# Altium schematic symbol library Header.SchLib: 19 symbols
Pins are listed as number, name and electrical type; pins without a type are passive.

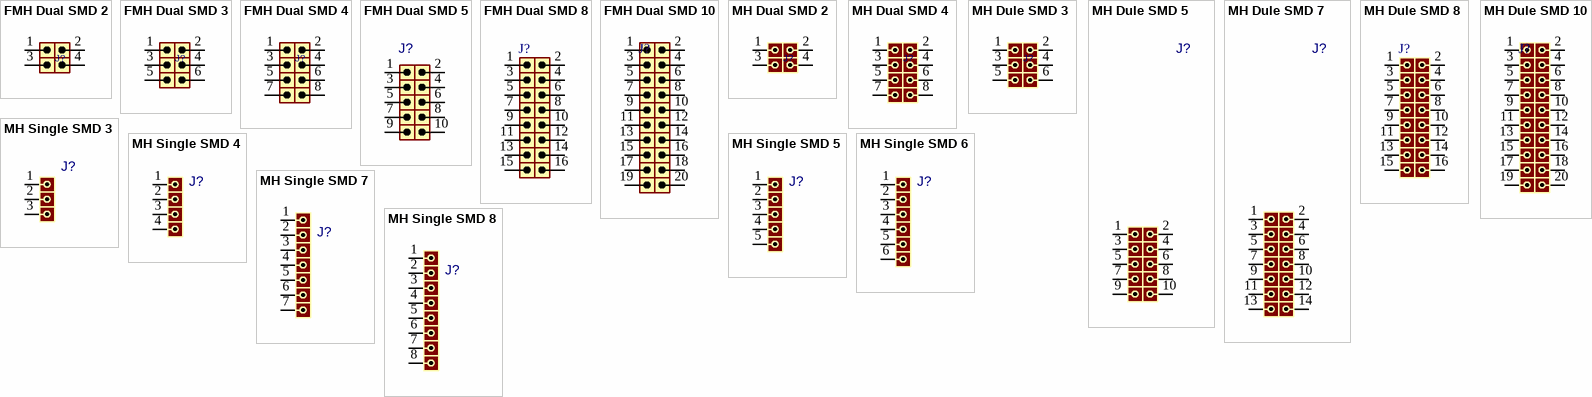
[diagram p0: symbols FMH Dual SMD 2 to MH Single SMD 8]

## FMH Dual SMD 2
designator J?
Female, pitch: 2mm, SMD; DatasheetVersion: 2022
footprint HDR2S_F_2X2 (Header 2.0mm pitch)
pins: 1, 2, 3, 4

## FMH Dual SMD 3
designator J?
Female, pitch: 2mm, SMD; DatasheetVersion: 2022
footprint HDR2S_F_2X3 (Header 2.0mm pitch)
pins: 1, 2, 3, 4, 5, 6

## FMH Dual SMD 4
designator J?
Female, pitch: 2mm, SMD; DatasheetVersion: 2022
footprint HDR2S_F_2X4 (Header 2.0mm pitch)
pins: 1, 2, 3, 4, 5, 6, 7, 8

## FMH Dual SMD 5
designator J?
Female, pitch: 2mm, SMD; DatasheetVersion: 2022
footprint HDR2S_F_2X5 (Header 2.0mm pitch)
pins: 1, 2, 3, 4, 5, 6, 7, 8, 9, 10

## FMH Dual SMD 8
designator J?
Female, pitch: 2mm, SMD; DatasheetVersion: 2022
footprint HDR2S_F_2X8 (Header 2.0mm pitch)
pins: 1, 2, 3, 4, 5, 6, 7, 8, 9, 10, 11, 12, 13, 14, 15, 16

## FMH Dual SMD 10
designator J?
Female, pitch: 2mm, SMD; DatasheetVersion: 2022
footprint HDR2S_F_2X10 (Header 2.0mm pitch)
pins: 1, 2, 3, 4, 5, 6, 7, 8, 9, 10, 11, 12, 13, 14, 15, 16, 17, 18, 19, 20

## MH Dual SMD 2
designator J?
Male, pitch: 2.54mm & 2.0mm, SMD; DatasheetVersion: 2022
footprint HDRS_M_2X2
footprint HDR2S_M_2X2 (Header 2.0mm pitch)
pins: 1, 2, 3, 4

## MH Dual SMD 4
designator J?
Male, pitch: 2.54mm & 2.0mm, SMD; DatasheetVersion: 2022
footprint HDR2S_M_2X4 (Header 2.0mm pitch)
pins: 1, 2, 3, 4, 5, 6, 7, 8

## MH Dule SMD 3
designator J?
Male, pitch: 2.54mm & 2.0mm, SMD; DatasheetVersion: 2022
footprint HDRS_M_2X3 (Connector; Header; 3x2 Position, SMD)
footprint HDR2S_M_2X3 (Header 2.0mm pitch)
pins: 1, 2, 3, 4, 5, 6

## MH Dule SMD 5
designator J?
Male, pitch: 2.54mm & 2.0mm, SMD; DatasheetVersion: 2022
footprint HDRS_M_2X5 (Male Header 2X05 with 2.54 mm SMD)
footprint HDRS_M_2X5_C (Male Header 2X05 with 2.54 mm SMD WITH CABLE)
footprint HDR2S_M_2X5 (Header 2.0mm pitch)
pins: 1, 2, 3, 4, 5, 6, 7, 8, 9, 10

## MH Dule SMD 7
designator J?
Male, pitch: 2.54mm, SMD; DatasheetVersion: 2022
footprint HDRS_M_2X7
pins: 1, 2, 3, 4, 5, 6, 7, 8, 9, 10, 11, 12, 13, 14

## MH Dule SMD 8
designator J?
Male, pitch: 2.0mm, SMD; DatasheetVersion: 2022
footprint HDR2S_M_2X8 (Header 2.0mm pitch)
pins: 1, 2, 3, 4, 5, 6, 7, 8, 9, 10, 11, 12, 13, 14, 15, 16

## MH Dule SMD 10
designator J?
Male, pitch: 2.0mm, SMD; DatasheetVersion: 2022
footprint HDR2S_M_2X10 (Header 2.0mm pitch)
pins: 1, 2, 3, 4, 5, 6, 7, 8, 9, 10, 11, 12, 13, 14, 15, 16, 17, 18, 19, 20

## MH Single SMD 3
designator J?
Male, pitch: 2.54mm, SMD; DatasheetVersion: 2022
footprint HDRS_M_1X3 (Connector; Header; 3 Position, SMD)
pins: 1 P1, 2 P2, 3

## MH Single SMD 4
designator J?
Male, pitch: 2.54mm, SMD; DatasheetVersion: 2022
footprint HDRS_M_1X4 (Connector; Header; 4 Position, SMD)
pins: 1, 2, 3, 4

## MH Single SMD 5
designator J?
Male, pitch: 2.54mm, SMD; DatasheetVersion: 2022
footprint HDRS_M_1X5 (Connector; Header; 5 Position, SMD)
pins: 1, 2, 3, 4, 5

## MH Single SMD 6
designator J?
Male, pitch: 2.54mm, SMD; DatasheetVersion: 2022
footprint HDRS_M_1X6 (Connector; Header; 6 Position, SMD)
pins: 1, 2, 3, 4, 5, 6

## MH Single SMD 7
designator J?
Male, pitch: 2.54mm, SMD; DatasheetVersion: 2022
footprint HDRS_M_1X7 (Connector; Header; 7 Position, SMD)
pins: 1, 2, 3, 4, 5, 6, 7

## MH Single SMD 8
designator J?
Male, pitch: 2.54mm, SMD; DatasheetVersion: 2022
footprint HDRS_M_1X8 (Connector; Header; 8 Position, SMD)
pins: 1, 2, 3, 4, 5, 6, 7, 8